# Altium footprint library TSS-TD-19XA-XTR.PcbLib: 1 footprints
Each footprint in its own frame and in the unit in brackets; x right, y up, seen from the top. Pads: shape width x height; smd on the part's side, far side on the other; paste and mask are expansions set on the pad; w line width, h text height; cw(c..) or ccw(c..) is an arc to the next point about the centre after c.
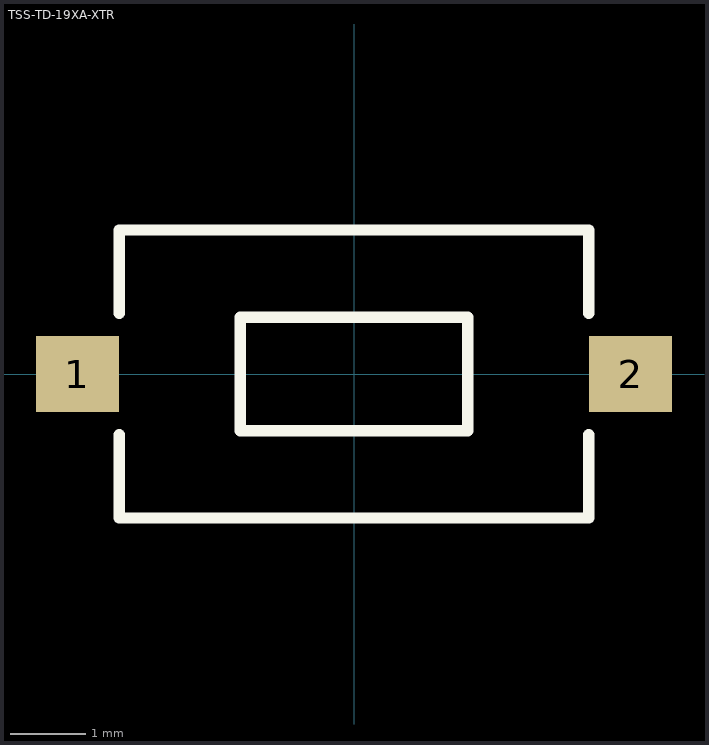
[diagram p0: the footprint, top view; thin cyan lines are the x and y axes]

## TSS-TD-19XA-XTR [mm]
pads (2):
  rect 1.1x1 smd: 1(-3.65,0) 2(3.65,0)
Top Overlay:
  lines w0.15: -3.1,-0.8 -3.1,-1.9 3.1,-1.9 3.1,-0.8 ; -3.1,0.8 -3.1,1.9 3.1,1.9 3.1,0.8 ; -1.5,-0.75 1.5,-0.75 1.5,0.75 -1.5,0.75 -1.5,-0.75
3D body "TSS-TD-19XA-XTR.STEP": height 2.55, standoff 0, extent -4.05,-1.85 4.05,1.85